# EAGLE library part FLAT-FLEX-CONNECTOR-VERT-09POS (library FlashPCB_Connectors)
FLAT-FLEX-CONNECTOR-VERT-09POS - Flat Flex Connector 9 position Vertical Technical Specifications: Number of Positions: 9 Contact: One Side Mount: Vertical
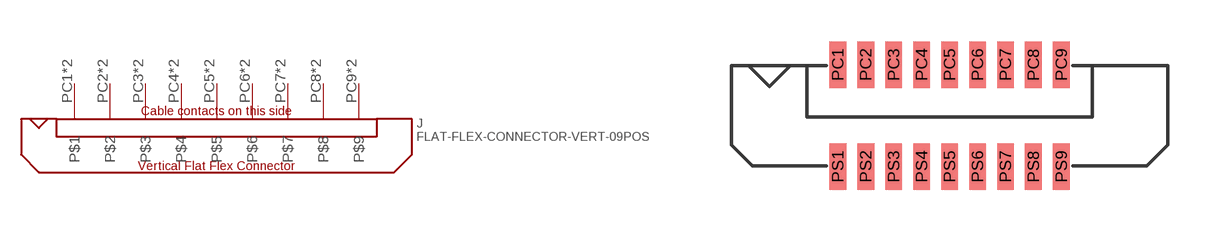
[diagram p123: symbol with the pads of FLAT-FLEX-CONNECTOR-MOLEX-52610-VERT-09POS; footprint FLAT-FLEX-CONNECTOR-MOLEX-52610-VERT-09POS]

Designator prefix J

## FLAT-FLEX-CONNECTOR-VERT-09POS1MM-PITCH  [FLAT-FLEX-CONNECTOR-MOLEX-52610-VERT-09POS]
PC1  P$1
PC2  P$2
PC3  P$3
PC4  P$4
PC5  P$5
PC6  P$6
PC7  P$7
PC8  P$8
PC9  P$9
PS1  P$1
PS2  P$2
PS3  P$3
PS4  P$4
PS5  P$5
PS6  P$6
PS7  P$7
PS8  P$8
PS9  P$9

## Footprint FLAT-FLEX-CONNECTOR-MOLEX-52610-VERT-09POS (pad centres in mm)
smd 0.6 x 1.65: PC1 -4,1.825; PC2 -3,1.825; PC3 -2,1.825; PC4 -1,1.825; PC5 0,1.825; PC6 1,1.825; PC7 2,1.825; PC8 3,1.825; PC9 4,1.825; PS1 -4,-1.825; PS2 -3,-1.825; PS3 -2,-1.825; PS4 -1,-1.825; PS5 0,-1.825; PS6 1,-1.825; PS7 2,-1.825; PS8 3,-1.825; PS9 4,-1.825